# Altium schematic symbol library DF11-20DS-2DSA(06).Schlib: 1 symbol
Pins are listed as number, name and electrical type; pins without a type are passive.

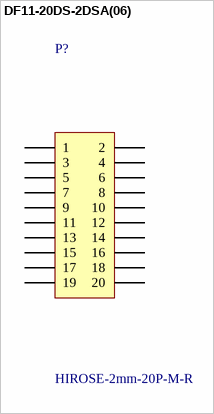
[diagram p0: symbol DF11-20DS-2DSA(06)]

## DF11-20DS-2DSA(06)
designator P?, comment HIROSE-2mm-20P-M-R
Hirose 20 Pin, Right Angle Pin Header
pins: 1, 2, 3, 4, 5, 6, 7, 8, 9, 10, 11, 12, 13, 14, 15, 16, 17, 18, 19, 20